# EAGLE library part JTAG_PINLIST_2MM (library connectors)
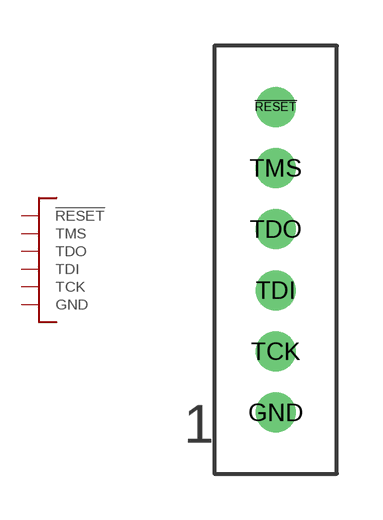
[diagram p2: symbol with the pads of JTAG_PINLIST_2MM; footprint JTAG_PINLIST_2MM]

Designator prefix X

## JTAG_PINLIST_2MM  [JTAG_PINLIST_2MM]
!RESET  !RESET
GND  GND
TCK  TCK
TDI  TDI
TDO  TDO
TMS  TMS

## Footprint JTAG_PINLIST_2MM (pad centres in mm)
drill 0.8: !RESET 0,10; GND 0,0; TCK 0,2; TDI 0,4; TDO 0,6; TMS 0,8